# Altium footprint library PcbLib1.PcbLib: 23 footprints (part 2 of 2)
Each footprint in its own frame and in the unit in brackets; x right, y up, seen from the top. Pads: shape width x height; smd on the part's side, far side on the other; paste and mask are expansions set on the pad; w line width, h text height; cw(c..) or ccw(c..) is an arc to the next point about the centre after c.
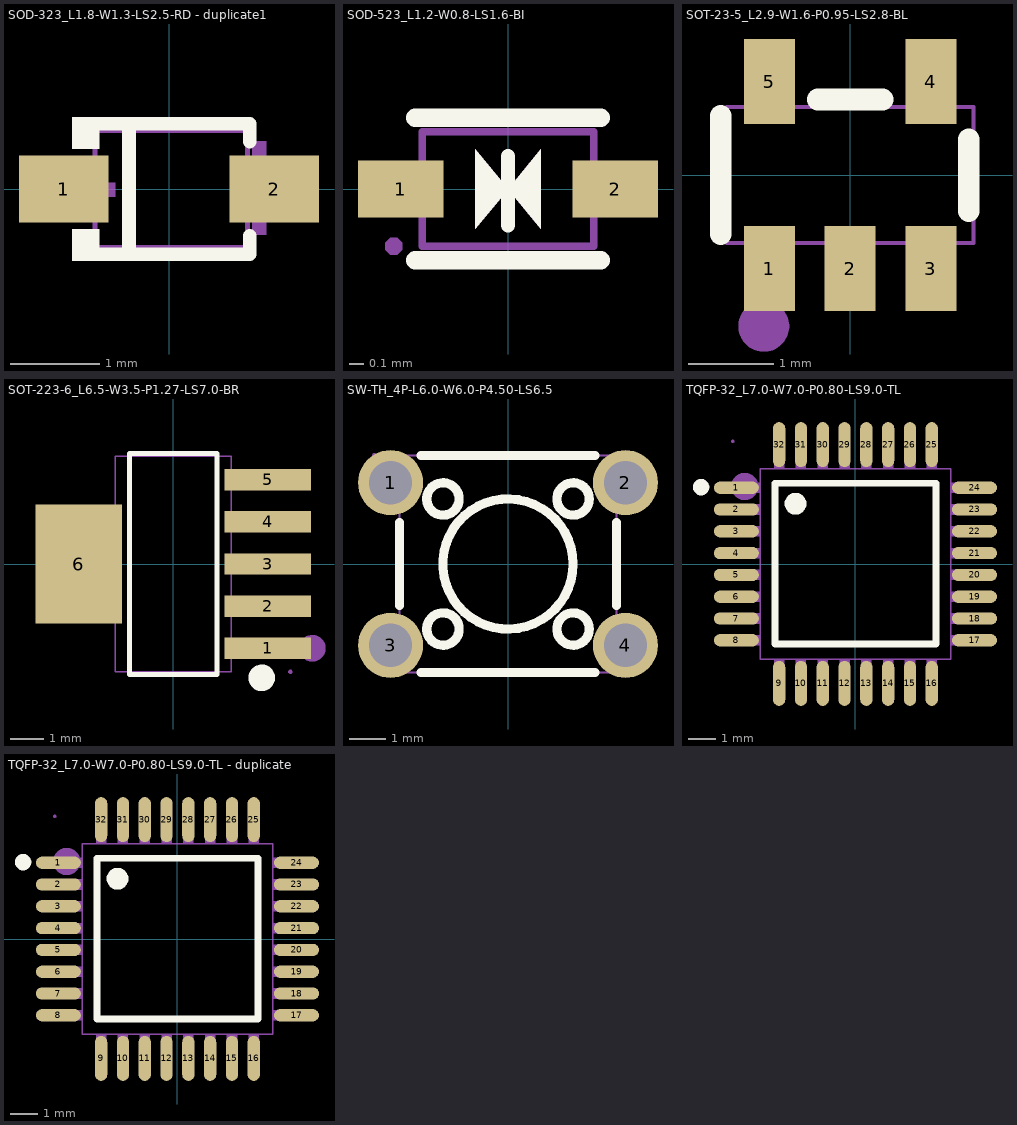
[diagram p1: the footprints below, top view; thin cyan lines are the x and y axes]

## SOD-323_L1.8-W1.3-LS2.5-RD - duplicate1 [mm]
pads (2):
  rect 1x0.75 smd: 1(-1.173,0) 2(1.173,0)
Top Overlay:
  region: -0.775,-0.802 -0.775,-0.45 -1.08,-0.45 -1.08,-0.802
  region: -0.775,0.802 -0.775,0.45 -1.08,0.45 -1.08,0.802
  lines w0.152: -0.851,-0.726 0.901,-0.726 0.901,-0.52 ; -0.851,0.726 0.901,0.726 0.901,0.53 ; -0.447,-0.726 -0.447,0.726
Mechanical 6:
  region: 1.083,0.53 1.083,-0.51 0.927,-0.51 0.927,0.53
  region: 1.315,0.09 1.315,-0.066 0.691,-0.066 0.691,0.09
  region: -1.225,0.07 -1.225,-0.086 -0.601,-0.086 -0.601,0.07
Mechanical 15:
  region: -0.815,0.16 -0.815,-0.16 -0.935,-0.16 -0.935,0.16
  region: -0.925,0.16 -0.925,-0.16 -1.225,-0.16 -1.225,0.16
  region: 0.985,0.16 0.985,-0.16 0.865,-0.16 0.865,0.16
  region: 1.275,0.16 1.275,-0.16 0.975,-0.16 0.975,0.16
  lines w0.051: -0.825,-0.65 -0.825,0.65 0.875,0.65 0.875,-0.65 -0.825,-0.65

## SOD-523_L1.2-W0.8-LS1.6-BI [mm]
pads (2):
  rect 0.6x0.4 smd: 1(-0.75,0) 2(0.75,0)
Top Overlay:
  region: 0,0 -0.229,-0.279 -0.229,0.279
  region: 0,0 0.229,0.279 0.229,-0.279
  lines w0.1: 0,-0.254 0,0.229
  lines w0.13: -0.65,-0.5 0.65,-0.5 ; -0.65,0.5 0.65,0.5
Mechanical 6:
  region: 0.229,0.279 0.229,-0.279 0,0
  region: -0.229,0.279 -0.229,-0.279 0,0
Mechanical 15:
  region: -0.8,0.15 -0.463,0.15 -0.463,-0.15 -0.8,-0.15
  region: 0.8,-0.152 0.463,-0.152 0.463,0.148 0.8,0.148
  region: -0.74,-0.4 -0.74,-0.375 -0.775,-0.34 -0.825,-0.34 -0.86,-0.375 -0.86,-0.4 -0.86,-0.425 -0.825,-0.46 -0.775,-0.46 -0.74,-0.425
  lines w0.051: -0.6,-0.4 0.6,-0.4 0.6,0.4 -0.6,0.4 -0.6,-0.4

## SOT-23-5_L2.9-W1.6-P0.95-LS2.8-BL [mm]
pads (5):
  rect 0.6x1 smd paste+0 mask+0.05: 1(-0.95,-1.1) 2(0,-1.1) 3(0.95,-1.1) 4(0.95,1.1) 5(-0.95,1.1)
Top Overlay:
  lines w0.254: -1.524,-0.699 -1.524,0.699 ; -0.381,0.889 0.381,0.889 ; 1.397,-0.422 1.397,0.422
Mechanical 6:
  circle w0.3: c-1.016,-1.778 r0.15
Mechanical 15:
  region: -1.15,0.95 -1.15,1.4 -0.75,1.4 -0.75,0.95
  region: -1.15,0.79 -1.15,0.96 -0.75,0.96 -0.75,0.79
  region: 0.75,0.95 0.75,1.4 1.15,1.4 1.15,0.95
  region: 0.75,0.79 0.75,0.96 1.15,0.96 1.15,0.79
  region: -1.15,-1.4 -1.15,-0.95 -0.75,-0.95 -0.75,-1.4
  region: -1.15,-0.96 -1.15,-0.79 -0.75,-0.79 -0.75,-0.96
  region: 0.75,-1.4 0.75,-0.95 1.15,-0.95 1.15,-1.4
  region: 0.75,-0.96 0.75,-0.79 1.15,-0.79 1.15,-0.96
  region: -0.2,-1.4 -0.2,-0.95 0.2,-0.95 0.2,-1.4
  region: -0.2,-0.96 -0.2,-0.79 0.2,-0.79 0.2,-0.96
  lines w0.051: -1.45,-0.8 1.45,-0.8 1.45,0.8 -1.45,0.8 -1.45,-0.8

## SOT-223-6_L6.5-W3.5-P1.27-LS7.0-BR [mm]
pads (6):
  rect 2.595x0.644 smd: 1(2.848,-2.54) 2(2.848,-1.27) 3(2.848,0) 4(2.848,1.27) 5(2.848,2.54)
  rect 2.595x3.6 smd: 6(-2.848,0)
Top Overlay:
  circle w0.4: c2.667,-3.429 r0.2
  lines w0.152: -1.321,-3.326 -1.321,3.326 1.321,3.326 1.321,-3.326 -1.321,-3.326
Mechanical 6:
  circle w0.4: c4.191,-2.54 r0.2
Mechanical 15:
  region: 3.59,-3.25 3.59,-3.225 3.555,-3.19 3.505,-3.19 3.47,-3.225 3.47,-3.25 3.47,-3.275 3.505,-3.31 3.555,-3.31 3.59,-3.275
  region: -2.515,-1.5 -2.515,1.5 -1.74,1.5 -1.74,-1.5
  region: -2.505,-1.5 -2.505,1.5 -3.53,1.5 -3.53,-1.5
  region: 1.74,2.31 1.74,2.77 2.515,2.77 2.515,2.31
  region: 2.505,2.31 2.505,2.77 3.53,2.77 3.53,2.31
  region: 1.74,1.04 1.74,1.5 2.515,1.5 2.515,1.04
  region: 2.505,1.04 2.505,1.5 3.53,1.5 3.53,1.04
  region: 1.74,-0.23 1.74,0.23 2.515,0.23 2.515,-0.23
  region: 2.505,-0.23 2.505,0.23 3.53,0.23 3.53,-0.23
  region: 1.74,-1.5 1.74,-1.04 2.515,-1.04 2.515,-1.5
  region: 2.505,-1.5 2.505,-1.04 3.53,-1.04 3.53,-1.5
  region: 1.74,-2.77 1.74,-2.31 2.515,-2.31 2.515,-2.77
  region: 2.505,-2.77 2.505,-2.31 3.53,-2.31 3.53,-2.77
  lines w0.051: -1.75,-3.25 -1.75,3.25 1.75,3.25 1.75,-3.25 -1.75,-3.25

## SW-TH_4P-L6.0-W6.0-P4.50-LS6.5 [mm]
pads (4):
  round 1.8 hole 1.2: 1(-3.25,2.25) 2(3.25,2.25) 3(-3.25,-2.25) 4(3.25,-2.25)
Top Overlay:
  circle w0.254: c0,0 r1.8
  circle w0.254: c1.8,1.8 r0.447
  circle w0.254: c-1.8,1.8 r0.447
  circle w0.254: c-1.8,-1.8 r0.447
  circle w0.254: c1.8,-1.8 r0.447
  lines w0.254: -3,-1.147 -3,1.147 ; -2.404,-3 2.404,-3 ; -2.404,3 2.404,3 ; 3,-1.147 3,1.147
Mechanical 15:
  region: -3.64,3 -3.64,3.025 -3.675,3.06 -3.725,3.06 -3.76,3.025 -3.76,3 -3.76,2.975 -3.725,2.94 -3.675,2.94 -3.64,2.975
  region: -2.9,-1.9 -2.9,-2.6 -3.7,-2.6 -3.7,-1.9
  region: -2.9,2.6 -2.9,1.9 -3.7,1.9 -3.7,2.6
  region: 2.9,1.9 2.9,2.6 3.7,2.6 3.7,1.9
  region: 2.9,-2.6 2.9,-1.9 3.7,-1.9 3.7,-2.6
  region: -3.4,-1.9 -3.1,-1.9 -3.1,-2.6 -3.4,-2.6
  region: -3.4,2.6 -3.1,2.6 -3.1,1.9 -3.4,1.9
  region: 3.1,2.6 3.4,2.6 3.4,1.9 3.1,1.9
  region: 3.1,-1.9 3.4,-1.9 3.4,-2.6 3.1,-2.6
  lines w0.051: -3,-3 3,-3 3,3 -3,3 -3,-3

## TQFP-32_L7.0-W7.0-P0.80-LS9.0-TL [mm]
pads (32):
  oval 1.65x0.45 smd: 1(-4.369,2.8) 2(-4.369,2) 3(-4.369,1.2) 4(-4.369,0.4) 5(-4.369,-0.4) 6(-4.369,-1.2) 7(-4.369,-2) 8(-4.369,-2.8) 17(4.369,-2.8) 18(4.369,-2) 19(4.369,-1.2) 20(4.369,-0.4) 21(4.369,0.4) 22(4.369,1.2) 23(4.369,2) 24(4.369,2.8)
  oval 0.45x1.65 smd: 9(-2.8,-4.381) 10(-2,-4.381) 11(-1.2,-4.381) 12(-0.4,-4.381) 13(0.4,-4.381) 14(1.2,-4.381) 15(2,-4.381) 16(2.8,-4.381) 25(2.8,4.381) 26(2,4.381) 27(1.2,4.381) 28(0.4,4.381) 29(-0.4,4.381) 30(-1.2,4.381) 31(-2,4.381) 32(-2.8,4.381)
Top Overlay:
  lines w0.254: -2.95,-2.937 -2.95,2.963 2.95,2.963 2.95,-2.937 -2.95,-2.937
  lines w0.3: -5.514,2.818 cw(c-5.664,2.819) -5.814,2.819 cw(c-5.664,2.819) -5.514,2.821
  lines w0.4: -1.999,2.21 cw(c-2.199,2.211) -2.399,2.211 cw(c-2.199,2.211) -1.999,2.212
Mechanical 6:
  circle w0.5: c-4.064,2.845 r0.25
Mechanical 15:
  drawing of 69 lines, arcs and shapes, not listed

## TQFP-32_L7.0-W7.0-P0.80-LS9.0-TL - duplicate [mm]
pads (32):
  oval 1.65x0.45 smd: 1(-4.369,2.8) 2(-4.369,2) 3(-4.369,1.2) 4(-4.369,0.4) 5(-4.369,-0.4) 6(-4.369,-1.2) 7(-4.369,-2) 8(-4.369,-2.8) 17(4.369,-2.8) 18(4.369,-2) 19(4.369,-1.2) 20(4.369,-0.4) 21(4.369,0.4) 22(4.369,1.2) 23(4.369,2) 24(4.369,2.8)
  oval 0.45x1.65 smd: 9(-2.8,-4.381) 10(-2,-4.381) 11(-1.2,-4.381) 12(-0.4,-4.381) 13(0.4,-4.381) 14(1.2,-4.381) 15(2,-4.381) 16(2.8,-4.381) 25(2.8,4.381) 26(2,4.381) 27(1.2,4.381) 28(0.4,4.381) 29(-0.4,4.381) 30(-1.2,4.381) 31(-2,4.381) 32(-2.8,4.381)
Top Overlay:
  lines w0.254: -2.95,-2.937 2.95,-2.937 2.95,2.963 -2.95,2.963 -2.95,-2.937
  lines w0.3: -5.514,2.818 cw(c-5.664,2.819) -5.814,2.819 cw(c-5.664,2.819) -5.514,2.821
  lines w0.4: -1.999,2.21 cw(c-2.199,2.211) -2.399,2.211 cw(c-2.199,2.211) -1.999,2.212
Mechanical 6:
  circle w0.5: c-4.064,2.845 r0.25
Mechanical 15:
  drawing of 69 lines, arcs and shapes, not listed